# EAGLE library part AP3602AKTR-G1 (library AP3602A)
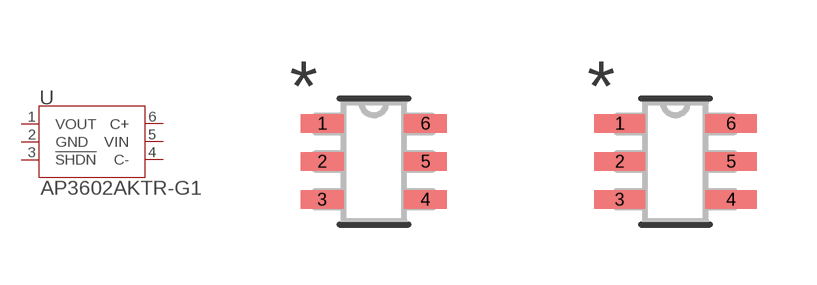
[diagram p0: symbol with the pads of SOT-23-6_DIO; footprints SOT-23-6_DIO, SOT-23-6_DIO-M]

Designator prefix U

## AP3602AKTR-G1 (COPYRIGHT: Copyright (C) 2024 Ultra Librarian. All rights reserved.; MANUFACTURER_PART_NUMBER: AP3602AKTR-G1; MFR_NAME: Diodes Inc)  [SOT-23-6_DIO]
1  VOUT  out
2  GND  pwr
3  !SHDN  in
4  C-  pas
5  VIN  in
6  C+  pas

## AP3602AKTR-G1SOT-23-6_DIO-M (COPYRIGHT: Copyright (C) 2024 Ultra Librarian. All rights reserved.; MANUFACTURER_PART_NUMBER: AP3602AKTR-G1; MFR_NAME: Diodes Inc)  [SOT-23-6_DIO-M]
Pads as for SOT-23-6_DIO

## AP3602AKTR-G1SOT-23-6_DIO-L (COPYRIGHT: Copyright (C) 2024 Ultra Librarian. All rights reserved.; MANUFACTURER_PART_NUMBER: AP3602AKTR-G1; MFR_NAME: Diodes Inc)  [SOT-23-6_DIO-L]
Pads as for SOT-23-6_DIO

## Footprint SOT-23-6_DIO (pad centres in mm)
smd 1.079 x 0.457: 1 -1.289,0.95; 2 -1.289,0; 3 -1.289,-0.95; 4 1.289,-0.95; 5 1.289,0; 6 1.289,0.95

## Footprint SOT-23-6_DIO-M (pad centres in mm)
smd 1.283 x 0.457: 1 -1.391,0.95; 2 -1.391,0; 3 -1.391,-0.95; 4 1.391,-0.95; 5 1.391,0; 6 1.391,0.95

## Footprint SOT-23-6_DIO-L (pad centres in mm)
smd 0.876 x 0.406: 1 -1.187,0.95; 2 -1.187,0; 3 -1.187,-0.95; 4 1.187,-0.95; 5 1.187,0; 6 1.187,0.95